# Altium schematic symbol library Motion Sensors - IMUs.SchLib: 2 symbols
Pins are listed as number, name and electrical type; pins without a type are passive.

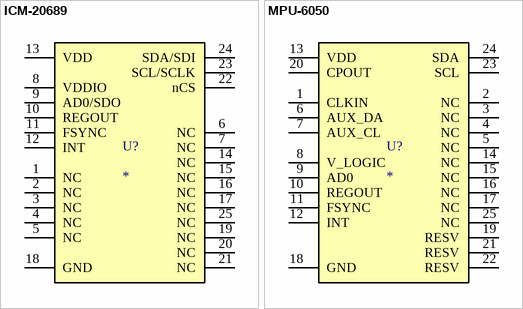
[diagram p0: symbols ICM-20689 to MPU-6050]

## ICM-20689
designator U?
IMU ACCEL/GYRO/TEMP I2C/SPI QFN; Supplier 1: Digi-Key; Supplier 2: Farnell; Supplier 3: Arrow Electronics; Supplier Part Number 1: 1428-1059-6-ND; Supplier Part Number 2: 2911512; Supplier Part Number 3: ICM-20689
footprint TDK_24-QFN(4X4)
pins: 1 NC, 2 NC, 3 NC, 4 NC, 5 NC, 6 NC, 7 NC, 8 VDDIO, 9 AD0/SDO, 10 REGOUT, 11 FSYNC, 12 INT, 13 VDD, 14 NC, 15 NC, 16 NC, 17 NC, 18 GND, 19 NC, 20 NC, 21 NC, 22 nCS, 23 SCL/SCLK, 24 SDA/SDI, 25 NC

## MPU-6050
designator U?
IMU ACCEL/GYRO 3-AXIS I2C 24QFN; Supplier 1: Digi-Key; Supplier 2: Farnell; Supplier Part Number 1: 1428-1007-6-ND; Supplier Part Number 2: 1864742
footprint TDK_24-QFN(4X4)
pins: 1 CLKIN, 2 NC, 3 NC, 4 NC, 5 NC, 6 AUX_DA, 7 AUX_CL, 8 V_LOGIC, 9 AD0, 10 REGOUT, 11 FSYNC, 12 INT, 13 VDD, 14 NC, 15 NC, 16 NC, 17 NC, 18 GND, 19 RESV, 20 CPOUT, 21 RESV, 22 RESV, 23 SCL, 24 SDA, 25 NC